# Altium schematic symbol library Schlib2.SchLib: 35 symbols
Pins are listed as number, name and electrical type; pins without a type are passive.

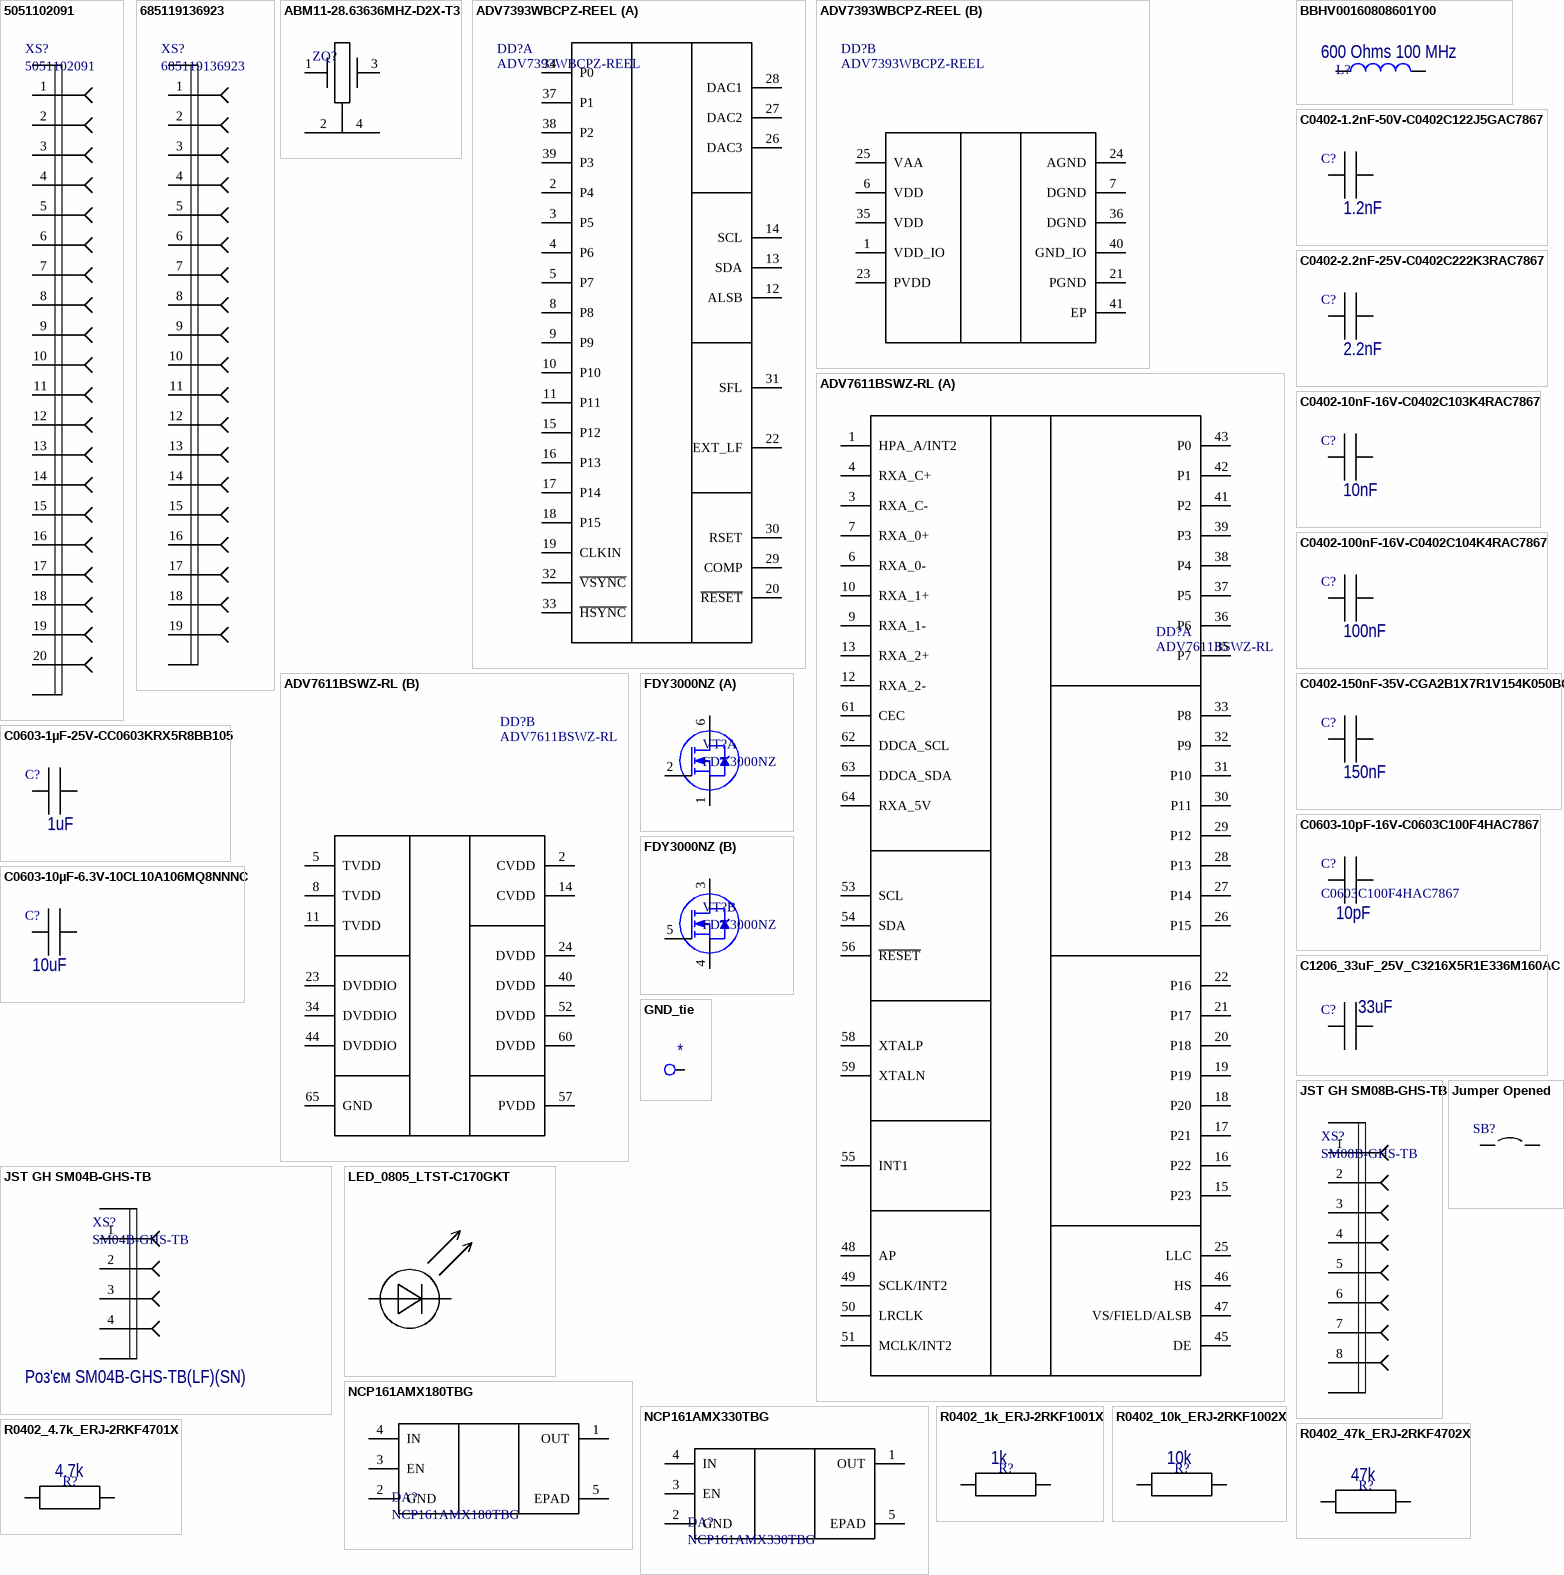
[diagram p0: symbols 5051102091 to R0402_47k_ERJ-2RKF4702X]

## 5051102091
designator XS?
20 Position FFC, FPC Connector Contacts, Bottom 0.020" (0.50mm) Surface Mount, Right Angle; Назва за КД: Роз'єм 5051102091; Supplier link 1: https://www.digikey.com/en/products/detail/molex/5051102091/5254655; Supplier link 2: *; Supplier link 3: *
footprint CON_5051102091_MOL
pins: 1, 2, 3, 4, 5, 6, 7, 8, 9, 10, 11, 12, 13, 14, 15, 16, 17, 18, 19, 20, P1 Shield, P2 Shield

## 685119136923
designator XS?
HDMI - Mini Receptacle Connector 19 Position Surface Mount, Right Angle; Through Hole; Назва за КД: Роз'єм 685119136923; Supplier link 1: https://www.digikey.com/en/products/detail/w%C3%BCrth-elektronik/685119136923/2508508; Supplier link 2: *; Supplier link 3: *
footprint 685119136923 (Mini HDMI SMT Horizontal)
pins: 1 TMDS Data2 Shield, 2 TMDS Data2+, 3 TMDS Data2-, 4 TMDS Data1 Shield, 5 TMDS Data1+, 6 TMDS Data1-, 7 TMDS Data0 Shield, 8 TMDS Data0+, 9 TMDS Data0-, 10 TMDS Clock Shield, 11 TMDS Clock+, 12 TMDS Clock-, 13 DDC / CEC Ground / HEAC Shield, 14 CEC, 15 SCL, 16 SDA, 17 Utility / HEAC+, 18 +5V Power, 19 Hot Plug Detect / HEAC-, Shell Shield, Shell Shield

## ABM11-28.63636MHZ-D2X-T3
designator ZQ?
28.63636 MHz ±20ppm Crystal 10pF 100 Ohms 4-SMD, No Lead; Назва за КД: Кварц ABM11-28.63636MHZ-D2X-T3; Supplier link 1: https://www.digikey.com/en/products/detail/abracon-llc/ABM11-28-63636MHZ-D2X-T3/2623744?_gl=1*z1352j*_up*MQ..&gclid=Cj0KCQiAnKeCBhDPARIsAFDTLTIWUi_VlukfZKLeJup5zjw6K0pO7YUGtIszURMuY4osn_knpUlntF8aAvaFEALw_wcB
footprint FP-ABM11-MFG
pins: 1 OSC1, 2 GND, 3 OSC2, 4 GND

## ADV7393WBCPZ-REEL
designator DD?
Low Power, Chip Scale, 10-Bit SD/HD Video Encoder, 1.8/3.3 V, 16-bit Video Input Port, -40 to 105 degC, 40-Pin LFCSP (CP-40-1), RoHS, Reel; Назва за КД: Мікросхема ADV7393WBCPZ-REEL; Supplier link 1: https://www.digikey.com/en/products/detail/analog-devices-inc/ADV7393WBCPZ-REEL/6163897; Supplier link 2: *; Supplier link 3: *
footprint ADI-CP-40-1_L (QFN, 40-Leads, Body 6x6mm, Pitch 0.5mm, Thermal Pad 4.1x4.1mm, IPC High Density)
footprint ADI-CP-40-1_M (QFN, 40-Leads, Body 6x6mm, Pitch 0.5mm, Thermal Pad 4.1x4.1mm, IPC Low Density)
footprint ADI-CP-40-1_N (QFN, 40-Leads, Body 6x6mm, Pitch 0.5mm, Thermal Pad 4.1x4.1mm, IPC Medium Density)
part A pins: 2 P4 "16-Bit Pixel Port (P15 to P0). P0 is the LSB. See Table 36 for input modes (ADV7392/ADV7393).", 3 P5 "16-Bit Pixel Port (P15 to P0). P0 is the LSB. See Table 36 for input modes (ADV7392/ADV7393).", 4 P6 "16-Bit Pixel Port (P15 to P0). P0 is the LSB. See Table 36 for input modes (ADV7392/ADV7393).", 5 P7 "16-Bit Pixel Port (P15 to P0). P0 is the LSB. See Table 36 for input modes (ADV7392/ADV7393).", 8 P8 "16-Bit Pixel Port (P15 to P0). P0 is the LSB. See Table 36 for input modes (ADV7392/ADV7393).", 9 P9 "16-Bit Pixel Port (P15 to P0). P0 is the LSB. See Table 36 for input modes (ADV7392/ADV7393).", 10 P10 "16-Bit Pixel Port (P15 to P0). P0 is the LSB. See Table 36 for input modes (ADV7392/ADV7393).", 11 P11 "16-Bit Pixel Port (P15 to P0). P0 is the LSB. See Table 36 for input modes (ADV7392/ADV7393).", 12 ALSB "ALSB sets up the LSB2 of the MPU I2C address.", 13 SDA "I2C Data Input/Output.", 14 SCL "I2C Clock Input.", 15 P12 "16-Bit Pixel Port (P15 to P0). P0 is the LSB. See Table 36 for input modes (ADV7392/ADV7393).", 16 P13 "16-Bit Pixel Port (P15 to P0). P0 is the LSB. See Table 36 for input modes (ADV7392/ADV7393).", 17 P14 "16-Bit Pixel Port (P15 to P0). P0 is the LSB. See Table 36 for input modes (ADV7392/ADV7393).", 18 P15 "16-Bit Pixel Port (P15 to P0). P0 is the LSB. See Table 36 for input modes (ADV7392/ADV7393).", 19 CLKIN "Pixel Clock Input for HD (74.25 MHz), ED1 (27 MHz or 54 MHz), or SD (27 MHz).", 20 ~{RESET} "Resets the on-chip timing generator and sets the ADV739x into its default mode.", 22 EXT_LF "External Loop Filter for the Internal PLL.", 26 DAC3 "DAC Outputs. Full-drive and low-drive capable DACs.", 27 DAC2 "DAC Outputs. Full-drive and low-drive capable DACs.", 28 DAC1 "DAC Outputs. Full-drive and low-drive capable DACs.", 29 COMP "Compensation Pin. Connect a 2.2 nF capacitor from COMP to VAA.", 30 RSET "Controls the amplitudes of the DAC 1, DAC 2, and DAC 3 outputs. For full-drive operation (for example, into a 37.5 ohm load), a 510 ohm resistor must be connected from RSET to AGND. For low-drive operation (for example, into a 300 ohm load), a 4.12 kohm", 31 SFL "Subcarrier Frequency Lock (SFL) Input.", 32 ~{VSYNC} "Vertical Synchronization Signal. This pin can also be configured to output an SD, ED, or HD vertical synchronization signal. See the External Horizontal and Vertical Synchronization Control section.", 33 ~{HSYNC} "Horizontal Synchronization Signal. This pin can also be configured to output an SD, ED, or HD horizontal synchronization signal. See the External Horizontal and Vertical Synchronization Control section.", 34 P0 "16-Bit Pixel Port (P15 to P0). P0 is the LSB. See Table 36 for input modes (ADV7392/ADV7393).", 37 P1 "16-Bit Pixel Port (P15 to P0). P0 is the LSB. See Table 36 for input modes (ADV7392/ADV7393).", 38 P2 "16-Bit Pixel Port (P15 to P0). P0 is the LSB. See Table 36 for input modes (ADV7392/ADV7393).", 39 P3 "16-Bit Pixel Port (P15 to P0). P0 is the LSB. See Table 36 for input modes (ADV7392/ADV7393)."
part B pins: 1 VDD_IO (power) "Input/Output Digital Power Supply (1.8 V or 3.3 V).", 6 VDD (power) "Digital Power Supply (1.8 V). For dual-supply configurations, VDD can be connected to other 1.8 V supplies through a ferrite bead or suitable filtering.", 7 DGND (power) "Digital Ground Pin.", 21 PGND (power) "PLL Ground Pin.", 23 PVDD (power) "PLL Power Supply (1.8 V). For dual-supply configurations, PVDD can be connected to other 1.8 V supplies through a ferrite bead or suitable filtering.", 24 AGND (power) "Analog Ground Pin.", 25 VAA (power) "Analog Power Supply (2.7 V or 3.3 V).", 35 VDD (power) "Digital Power Supply (1.8 V). For dual-supply configurations, VDD can be connected to other 1.8 V supplies through a ferrite bead or suitable filtering.", 36 DGND (power) "Digital Ground Pin.", 40 GND_IO (power) "Input/Output Supply Ground Pin.", 41 EP (power) "Connect to analog ground (AGND)."

## ADV7611BSWZ-RL
designator DD?
Video Receiver IC I2C, I2S HDMI 1.4a, IEC 60958 64-LQFP-EP (10x10) Package; Назва за КД: Мікросхема ADV7611BSWZ-RL; Supplier link 1: https://www.win-source.net/products/detail/analog-devices-inc/adv7611bswz-rl.html; Supplier link 2: https://www.heisener.com/ProductDetail/ADV7611BSWZ-RL; Supplier link 3: https://octopart.com/adv7611bswz-rl-analog+devices-22024330?r=sp
footprint ADI-SW-64-2_L (LQFP, 64-Leads, Body 10.00x10.00mm, Pitch 0.50mm, Thermal Pad 5x5mm, IPC High Density)
footprint ADI-SW-64-2_M (LQFP, 64-Leads, Body 10.00x10.00mm, Pitch 0.50mm, Thermal Pad 5x5mm, IPC Low Density)
footprint ADI-SW-64-2_N (LQFP, 64-Leads, Body 10.00x10.00mm, Pitch 0.50mm, Thermal Pad 5x5mm, IPC Medium Density)
part A pins: 1 HPA_A/INT2 "A dual function pin that can be configured to output a Hot Plug assert signal (for HDMI Port A) or an Interrupt 2 signal. This pin is 5 V tolerant.", 3 RXA_C- "Digital Input Clock Complement of Port A in the HDMI Interface.", 4 RXA_C+ "Digital Input Clock True of Port A in the HDMI Interface.", 6 RXA_0- "Digital Input Channel 0 Complement of Port A in the HDMI Interface.", 7 RXA_0+ "Digital Input Channel 0 True of Port A in the HDMI Interface.", 9 RXA_1- "Digital Input Channel 1 Complement of Port A in the HDMI Interface.", 10 RXA_1+ "Digital Input Channel 1 True of Port A in the HDMI Interface.", 12 RXA_2- "Digital Input Channel 2 Complement of Port A in the HDMI Interface.", 13 RXA_2+ "Digital Input Channel 2 True of Port A in the HDMI Interface.", 15 P23 "Video Pixel Output Port.", 16 P22 "Video Pixel Output Port.", 17 P21 "Video Pixel Output Port.", 18 P20 "Video Pixel Output Port.", 19 P19 "Video Pixel Output Port.", 20 P18 "Video Pixel Output Port.", 21 P17 "Video Pixel Output Port.", 22 P16 "Video Pixel Output Port.", 25 LLC "Line-Locked Output Clock for the Pixel Data (Range is 13.5 MHz to 162.5 MHz).", 26 P15 "Video Pixel Output Port.", 27 P14 "Video Pixel Output Port.", 28 P13 "Video Pixel Output Port.", 29 P12 "Video Pixel Output Port.", 30 P11 "Video Pixel Output Port.", 31 P10 "Video Pixel Output Port.", 32 P9 "Video Pixel Output Port.", 33 P8 "Video Pixel Output Port.", 35 P7 "Video Pixel Output Port.", 36 P6 "Video Pixel Output Port.", 37 P5 "Video Pixel Output Port.", 38 P4 "Video Pixel Output Port.", 39 P3 "Video Pixel Output Port.", 41 P2 "Video Pixel Output Port.", 42 P1 "Video Pixel Output Port.", 43 P0 "Video Pixel Output Port.", 45 DE "DE (data enable) is a signal that indicates active pixel data.", 46 HS "HS is a horizontal synchronization output signal.", 47 VS/FIELD/ALSB "VS is a vertical synchronization output signal. FIELD is a field synchronization output signal in all interlaced video modes. VS or FIELD can be configured for this pin. The ALSB allows selection of the I2C address.", 48 AP "Audio Output Pin. Pin can be configured to output S/PDIF digital audio output (S/PDIF) or I2S.", 49 SCLK/INT2 "A dual function pin that can be configured to output an audio serial clock or an Interrupt 2 signal.", 50 LRCLK "Audio Left/Right Clock.", 51 MCLK/INT2 "A dual function pin that can be configured to output an audio master clock or an Interrupt 2 signal.", 53 SCL "I2C Port Serial Clock Input. SCL is the clock line for the control port.", 54 SDA "I2C Port Serial Data Input/Output Pin. SDA is the data line for the control port.", 55 INT1 "Interrupt. This pin can be active low or active high. When status bits change, this pin is triggered. The events that trigger an interrupt are under user configuration.", 56 ~{RESET} "System Reset Input. Active low. A minimum low reset pulse width of 5 ms is required to reset the ADV7611 circuitry.", 58 XTALP "Input Pin for 28.63636 MHz Crystal or an External 1.8 V, 28.63636 MHz Clock Oscillator Source to Clock the ADV7611.", 59 XTALN "Crystal Input. Input pin for 28.63636 MHz crystal.", 61 CEC "Consumer Electronic Control Channel.", 62 DDCA_SCL "HDCP Slave Serial Clock Port A. DDCA_SCL is a 3.3 V input that is 5 V tolerant.", 63 DDCA_SDA "HDCP Slave Serial Data Port A. DDCA_SDA is a 3.3 V input that is 5 V tolerant.", 64 RXA_5V "5 V Detect Pin for Port A in the HDMI Interface."
part B pins: 2 CVDD "HDMI Analog Block Supply Voltage (1.8 V).", 5 TVDD "Terminator Supply Voltage (3.3 V).", 8 TVDD "Terminator Supply Voltage (3.3 V).", 11 TVDD "Terminator Supply Voltage (3.3 V).", 14 CVDD "HDMI Analog Block Supply Voltage (1.8 V).", 23 DVDDIO "Digital I/O Supply Voltage (3.3 V).", 24 DVDD "Digital Core Supply Voltage (1.8 V).", 34 DVDDIO "Digital I/O Supply Voltage (3.3 V).", 40 DVDD "Digital Core Supply Voltage (1.8 V).", 44 DVDDIO "Digital I/O Supply Voltage (3.3 V).", 52 DVDD "Digital Core Supply Voltage (1.8 V).", 57 PVDD "PLL Supply Voltage (1.8 V).", 60 DVDD "Digital Core Supply Voltage (1.8 V).", 65 GND "Ground."

## BBHV00160808601Y00
designator L?, comment value 600 Ohms 100 MHz  (hidden comment: ferrite bead)
600 Ohms @ 100 MHz 1 Ferrite Bead 0603 (1608 Metric) 2A 100mOhm; Supplier link 1: https://www.digikey.com/en/products/detail/pulse-electronics/BBHV00160808601Y00/10508599?_gl=1*r82f7z*_up*MQ..&gclid=Cj0KCQiAnKeCBhDPARIsAFDTLTIWUi_VlukfZKLeJup5zjw6K0pO7YUGtIszURMuY4osn_knpUlntF8aAvaFEALw_wcB
footprint SC0603_L (Chip Capacitor, 2-Leads, Body 1,6x0,8mm, IPC High Density)
footprint SC0603_M (Chip Capacitor, 2-Leads, Body 1,6x0,8mm, IPC Low Density)
footprint SC0603_N (Chip Capacitor, 2-Leads, Body 1,6x0,8mm, IPC Medium Density)
pins: 1, 2

## C0402-1.2nF-50V-C0402C122J5GAC7867
designator C?, comment value 1.2nF  (hidden comment: C0402C222K3RAC7867)
1200 pF ±5% 50V Ceramic Capacitor C0G, NP0 0402 (1005 Metric); Назва за КД: Конденсатор C0402C222K3RAC7867; Supplier link 1: https://www.digikey.com/en/products/detail/kemet/C0402C122J5GAC7867/3316991
footprint FP-C0402-BB-IPC_A
footprint FP-C0402-BB-IPC_B
footprint FP-C0402-BB-IPC_C
footprint FP-C0402-BB-MFG
pins: 1, 2

## C0402-2.2nF-25V-C0402C222K3RAC7867
designator C?, comment value 2.2nF  (hidden comment: C0402C222K3RAC7867)
2200 pF ±10% 25V Ceramic Capacitor X7R 0402 (1005 Metric); Назва за КД: Конденсатор C0402C222K3RAC7867; Supplier link 1: https://www.digikey.com/en/products/detail/kemet/C0402C222K3RAC7867/411035
footprint FP-C0402-BB-IPC_A
footprint FP-C0402-BB-IPC_B
footprint FP-C0402-BB-IPC_C
footprint FP-C0402-BB-MFG
pins: 1, 2

## C0402-10nF-16V-C0402C103K4RAC7867
designator C?, comment value 10nF  (hidden comment: C0402C103K4RAC7867)
10000 pF ±10% 16V Ceramic Capacitor X7R 0402 (1005 Metric); Назва за КД: Конденсатор C0402C103K4RAC7867; Supplier link 1: https://www.digikey.com/en/products/detail/kemet/C0402C103K4RAC7867/411040
footprint FP-C0402-BB-IPC_A
footprint FP-C0402-BB-IPC_B
footprint FP-C0402-BB-IPC_C
footprint FP-C0402-BB-MFG
pins: 1, 2

## C0402-100nF-16V-C0402C104K4RAC7867
designator C?, comment value 100nF  (hidden comment: C0402C104K4RAC7867)
0.1 µF ±10% 16V Ceramic Capacitor X7R 0402 (1005 Metric); Назва за КД: Конденсатор C0402C104K4RAC7867; Supplier link 1: https://www.digikey.com/en/products/detail/kemet/C0402C104K4RAC7867/789653
footprint FP-C0402-BB-IPC_A
footprint FP-C0402-BB-IPC_B
footprint FP-C0402-BB-IPC_C
footprint FP-C0402-BB-MFG
pins: 1, 2

## C0402-150nF-35V-CGA2B1X7R1V154K050BC
designator C?, comment value 150nF  (hidden comment: CGA2B1X7R1V154K050BC)
0.15 µF ±10% 35V Ceramic Capacitor X7R 0402 (1005 Metric); Назва за КД: Конденсатор CGA2B1X7R1V154K050BC; Supplier link 1: https://www.digikey.com/en/products/detail/tdk-corporation/CGA2B1X7R1V154K050BC/4931436
footprint FP-C0402-BB-IPC_A
footprint FP-C0402-BB-IPC_B
footprint FP-C0402-BB-IPC_C
footprint FP-C0402-BB-MFG
pins: 1, 2

## C0603-1µF-25V-CC0603KRX5R8BB105
designator C?, comment value 1uF  (hidden comment: CC0603KRX5R8BB105)
1 µF ±10% 25V Ceramic Capacitor X5R 0603 (1608 Metric); Назва за КД: Конденсатор CC0603KRX5R8BB105; Supplier link 1: https://www.digikey.com/en/products/detail/yageo/CC0603KRX5R8BB105/2833610?s=N4IgTCBcDaIMJwAwDZEGYDSAlAGgViwA4AhYgRkTxAF0BfIA; Supplier link 2: https://www.mouser.com/ProductDetail/YAGEO/CC0603KRX5R8BB105?qs=BKNoF%2F0xMNuZVooGAHMQbg%3D%3D
footprint SC0603_L (Chip Capacitor, 2-Leads, Body 1,6x0,8mm, IPC High Density)
footprint SC0603_M (Chip Capacitor, 2-Leads, Body 1,6x0,8mm, IPC Low Density)
footprint SC0603_N (Chip Capacitor, 2-Leads, Body 1,6x0,8mm, IPC Medium Density)
pins: 1, 2

## C0603-10pF-16V-C0603C100F4HAC7867
designator C?, comment C0603C100F4HAC7867  value 10pF
10 pF ±1% 16V Ceramic Capacitor X8R 0603 (1608 Metric); Назва за КД: Конденсатор C0603C100F4HAC7867; Supplier link 1: https://www.digikey.com/en/products/detail/kemet/C0603C100F4HAC7867/7945991
footprint SC0603_L (Chip Capacitor, 2-Leads, Body 1,6x0,8mm, IPC High Density)
footprint SC0603_M (Chip Capacitor, 2-Leads, Body 1,6x0,8mm, IPC Low Density)
footprint SC0603_N (Chip Capacitor, 2-Leads, Body 1,6x0,8mm, IPC Medium Density)
pins: 1, 2

## C0603-10µF-6.3V-10CL10A106MQ8NNNC
designator C?, comment value 10uF  (hidden comment: CL10A106MQ8NNNC)
10 µF ±20% 6.3V Ceramic Capacitor X5R 0603 (1608 Metric); Назва за КД: Конденсатор CL10A106MQ8NNNC; Supplier link 1: https://www.digikey.com/en/products/detail/samsung-electro-mechanics/CL10A106MQ8NNNC/3886777?s=N4IgTCBcDaIMIBkCMAGAgqgbAWQIoA4A5YuEAXQF8g; Supplier link 2: https://www.mouser.com/ProductDetail/Samsung-Electro-Mechanics/CL10A106MQ8NNNC?qs=349EhDEZ59qlB6a%2FjjeGAg%3D%3D
footprint SC0603_L (Chip Capacitor, 2-Leads, Body 1,6x0,8mm, IPC High Density)
footprint SC0603_M (Chip Capacitor, 2-Leads, Body 1,6x0,8mm, IPC Low Density)
footprint SC0603_N (Chip Capacitor, 2-Leads, Body 1,6x0,8mm, IPC Medium Density)
pins: 1, 2

## C1206_33uF_25V_C3216X5R1E336M160AC
designator C?, comment value 33uF  (hidden comment: C3216X5R1E336M160AC)
33 µF ±20% 25V Ceramic Capacitor X5R 1206 (3216 Metric); Назва за КД: Конденсатор C3216X5R1E336M160AC; Supplier link 1: https://www.digikey.com/en/products/detail/tdk-corporation/C3216X5R1E336M160AC/2792259; Supplier link 2: *; Supplier link 3: *
footprint 1206
footprint 1206-L
footprint 1206-M
pins: 1, 2

## FDY3000NZ
designator VT?
Mosfet Array 20V 600mA 446mW Surface Mount SOT-563F; Назва за КД: Транзистор FDY3000NZ; Supplier link 1: https://www.digikey.com/en/products/detail/onsemi/fdy3000nz/1923009; Supplier link 2: *
footprint FAIR-SOT-563F-6-A_V (SOTFL, 6-Leads, Body 1.7x1.2mm, Pitch 0.5mm)
part A pins: 1 S1, 2 G1, 6 D1
part B pins: 3 D2, 4 S2, 5 G2

## GND_tie
designator *  (value not drawn)
footprint 1206-GND_Tie
pins: 1

## JST GH SM04B-GHS-TB
designator XS?, comment SM04B-GHS-TB  Назва за КД: Роз'єм SM04B-GHS-TB(LF)(SN)
1.25mm pitch/Disconnectable Crimp style connectors
footprint SM04B-GHS-TB (1.25mm pitch/Disconnectable Crimp style connectors)
pins: 1, 2, 3, 4, M, M

## JST GH SM08B-GHS-TB
designator XS?, comment SM08B-GHS-TB
1.25x08 JST GH RA; Назва за КД: Роз'єм SM08B-GHS-TB; Supplier link 1: https://www.digikey.com/en/products/detail/jst-sales-america-inc/SM08B-GHS-TB/807792; Supplier link 2: *; Supplier link 3: *
footprint SM08B-GHS-TB (1.25mm pitch/Disconnectable Crimp style connectors)
pins: 1, 2, 3, 4, 5, 6, 7, 8, M, M

## Jumper Opened
designator SB?, comment Jumper SB  (value not drawn)  (no BOM)
Circuit Breaker Opened , for solder closing
footprint SB1206
footprint SB0805
footprint SB0603
pins: 1, 2

## LED_0805_LTST-C170GKT
designator HL?, comment LTST-C170GKT  (value not drawn)
Green 569nm LED Indication - Discrete 2.1V 0805 (2012 Metric); Назва за КД: Світлодіод TJ-S3216SW9TGLC7K-A5; Supplier link 1: https://www.digikey.com/en/products/detail/liteon/LTST-C170GKT/269226
footprint LED_0805_G
pins: 1 K, 2 A

## NCP161AMX180TBG
designator DA?
IC REG LINEAR 1.8V 450MA 4XDFN; Назва за КД: Мікросхема NCP161AMX180TBG; Supplier link 1: https://www.digikey.com/en/products/detail/onsemi/NCP161AMX180TBG/5257724?s=N4IgTCBcDaIHIGEAKBGAbCgggWQBooA4AGAFQCEBxEAXQF8g
footprint XDFN4_711AJ_ONS_OSI
pins: 1 OUT, 2 GND, 3 EN, 4 IN, 5 EPAD

## NCP161AMX330TBG
designator DA?
IC REG LINEAR 3.3V 450MA 4XDFN; Назва за КД: Мікросхема NCP161AMX330TBG; Supplier link 1: https://www.digikey.com/en/products/detail/onsemi/NCP161AMX330TBG/5257729?s=N4IgTCBcDaIHIGEAKBGAbCgggWQBoGZ8AGAFQCEBxEAXQF8g
footprint XDFN4_711AJ_ONS_OSI
pins: 1 OUT, 2 GND, 3 EN, 4 IN, 5 EPAD

## R0402_1k_ERJ-2RKF1001X
designator R?, comment value 1k  (hidden comment: ERJ-2RKF1001X)
1 kOhms ±1% 0.1W, 1/10W Chip Resistor 0402 (1005 Metric) Automotive AEC-Q200 Thick Film; Назва за КД: Резистор ERJ-2RKF1001X; Supplier link 1: https://www.digikey.com/en/products/detail/panasonic-electronic-components/ERJ-2RKF1001X/79729; Supplier link 2: *; Supplier link 3: *
footprint RC04025-L (Chip Resistor, 2-Leads, Body 1.05x0.55mm, IPC High Density)
footprint RC04025-M (Chip Resistor, 2-Leads, Body 1.05x0.55mm, IPC Low Density)
footprint RC04025-N (Chip Resistor, 2-Leads, Body 1.05x0.55mm, IPC Medium Density)
pins: 1, 2

## R0402_4.7k_ERJ-2RKF4701X
designator R?, comment value 4.7k  (hidden comment: ERJ-2RKF4701X)
4.7 kOhms ±1% 0.1W, 1/10W Chip Resistor 0402 (1005 Metric) Automotive AEC-Q200 Thick Film; Назва за КД: Резистор ERJ-2RKF4701X; Supplier link 1: https://www.digikey.com/en/products/detail/panasonic-electronic-components/ERJ-2RKF4701X/1746231?s=N4IgTCBcDaIKICUBSBaMCDSAxALAdgAYBGADRAF0BfIA; Supplier link 2: *; Supplier link 3: *
footprint RC04025-L (Chip Resistor, 2-Leads, Body 1.05x0.55mm, IPC High Density)
footprint RC04025-M (Chip Resistor, 2-Leads, Body 1.05x0.55mm, IPC Low Density)
footprint RC04025-N (Chip Resistor, 2-Leads, Body 1.05x0.55mm, IPC Medium Density)
pins: 1, 2

## R0402_10k_ERJ-2RKF1002X
designator R?, comment value 10k  (hidden comment: ERJ-2RKF1002X)
10 kOhms ±1% 0.1W, 1/10W Chip Resistor 0402 (1005 Metric) Automotive AEC-Q200 Thick Film; Назва за КД: Резистор ERJ-2RKF1002X; Supplier link 1: https://www.digikey.com/en/products/detail/panasonic-electronic-components/ERJ-2RKF1002X/192073; Supplier link 2: *; Supplier link 3: *
footprint RC04025-L (Chip Resistor, 2-Leads, Body 1.05x0.55mm, IPC High Density)
footprint RC04025-M (Chip Resistor, 2-Leads, Body 1.05x0.55mm, IPC Low Density)
footprint RC04025-N (Chip Resistor, 2-Leads, Body 1.05x0.55mm, IPC Medium Density)
pins: 1, 2

## R0402_47k_ERJ-2RKF4702X
designator R?, comment value 47k  (hidden comment: ERJ-2RKF4702X)
47 kOhms ±1% 0.1W, 1/10W Chip Resistor 0402 (1005 Metric) Automotive AEC-Q200 Thick Film; Назва за КД: Резистор ERJ-2RKF4702X; Supplier link 1: https://www.digikey.com/en/products/detail/panasonic-electronic-components/ERJ-2RKF4702X/1746233; Supplier link 2: *; Supplier link 3: *
footprint RC04025-L (Chip Resistor, 2-Leads, Body 1.05x0.55mm, IPC High Density)
footprint RC04025-M (Chip Resistor, 2-Leads, Body 1.05x0.55mm, IPC Low Density)
footprint RC04025-N (Chip Resistor, 2-Leads, Body 1.05x0.55mm, IPC Medium Density)
pins: 1, 2

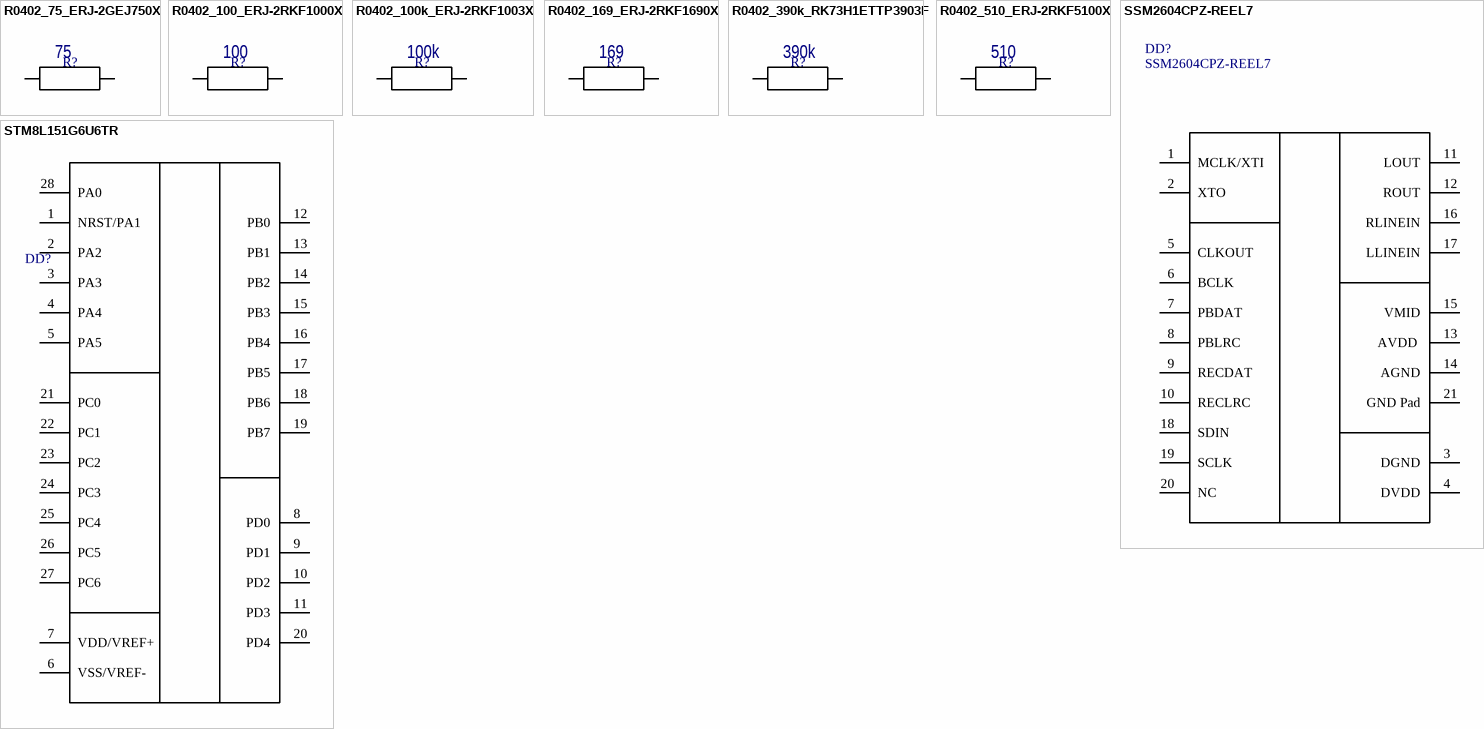
[diagram p1: symbols R0402_75_ERJ-2GEJ750X to STM8L151G6U6TR]

## R0402_75_ERJ-2GEJ750X
designator R?, comment value 75  (hidden comment: ERJ-2GEJ750X)
75 Ohms ±5% 0.1W, 1/10W Chip Resistor 0402 (1005 Metric) Automotive AEC-Q200 Thick Film; Назва за КД: Резистор ERJ-2GEJ750X; Supplier link 1: https://www.digikey.com/en/products/detail/panasonic-electronic-components/ERJ-2GEJ750X/147072; Supplier link 2: *; Supplier link 3: *
footprint RC04025-L (Chip Resistor, 2-Leads, Body 1.05x0.55mm, IPC High Density)
footprint RC04025-M (Chip Resistor, 2-Leads, Body 1.05x0.55mm, IPC Low Density)
footprint RC04025-N (Chip Resistor, 2-Leads, Body 1.05x0.55mm, IPC Medium Density)
pins: 1, 2

## R0402_100_ERJ-2RKF1000X
designator R?, comment value 100  (hidden comment: ERJ-2RKF1000X)
100 Ohms ±1% 0.1W, 1/10W Chip Resistor 0402 (1005 Metric) Automotive AEC-Q200 Thick Film; Назва за КД: Резистор ERJ-2RKF1000X; Supplier link 1: https://www.digikey.com/en/products/detail/panasonic-electronic-components/ERJ-2RKF1000X/192080; Supplier link 2: *; Supplier link 3: *
footprint RC04025-L (Chip Resistor, 2-Leads, Body 1.05x0.55mm, IPC High Density)
footprint RC04025-M (Chip Resistor, 2-Leads, Body 1.05x0.55mm, IPC Low Density)
footprint RC04025-N (Chip Resistor, 2-Leads, Body 1.05x0.55mm, IPC Medium Density)
pins: 1, 2

## R0402_100k_ERJ-2RKF1003X
designator R?, comment value 100k  (hidden comment: ERJ-2RKF1003X)
100 kOhms ±1% 0.1W, 1/10W Chip Resistor 0402 (1005 Metric) Automotive AEC-Q200 Thick Film; Назва за КД: Резистор ERJ-2RKF1003X; Supplier link 1: https://www.digikey.com/en/products/detail/panasonic-electronic-components/ERJ-2RKF1003X/192081; Supplier link 2: *; Supplier link 3: *
footprint RC04025-L (Chip Resistor, 2-Leads, Body 1.05x0.55mm, IPC High Density)
footprint RC04025-M (Chip Resistor, 2-Leads, Body 1.05x0.55mm, IPC Low Density)
footprint RC04025-N (Chip Resistor, 2-Leads, Body 1.05x0.55mm, IPC Medium Density)
pins: 1, 2

## R0402_169_ERJ-2RKF1690X
designator R?, comment value 169  (hidden comment: ERJ-2RKF1690X)
169 Ohms ±1% 0.1W, 1/10W Chip Resistor 0402 (1005 Metric) Automotive AEC-Q200 Thick Film; Назва за КД: Резистор ERJ-2RKF1690X; Supplier link 1: https://www.digikey.com/en/products/detail/panasonic-electronic-components/ERJ-2RKF1690X/192166; Supplier link 2: *; Supplier link 3: *
footprint RC04025-L (Chip Resistor, 2-Leads, Body 1.05x0.55mm, IPC High Density)
footprint RC04025-M (Chip Resistor, 2-Leads, Body 1.05x0.55mm, IPC Low Density)
footprint RC04025-N (Chip Resistor, 2-Leads, Body 1.05x0.55mm, IPC Medium Density)
pins: 1, 2

## R0402_390k_RK73H1ETTP3903F
designator R?, comment value 390k  (hidden comment: RK73H1ETTP3903F)
390 kOhms ±1% 0.1W, 1/10W Chip Resistor 0402 (1005 Metric) Automotive AEC-Q200 Thick Film; Назва за КД: Резистор RK73H1ETTP3903F; Supplier link 1: https://www.digikey.com/en/products/detail/koa-speer-electronics-inc/RK73H1ETTP3903F/9844485; Supplier link 2: *; Supplier link 3: *
footprint RC04025-L (Chip Resistor, 2-Leads, Body 1.05x0.55mm, IPC High Density)
footprint RC04025-M (Chip Resistor, 2-Leads, Body 1.05x0.55mm, IPC Low Density)
footprint RC04025-N (Chip Resistor, 2-Leads, Body 1.05x0.55mm, IPC Medium Density)
pins: 1, 2

## R0402_510_ERJ-2RKF5100X
designator R?, comment value 510  (hidden comment: ERJ-2RKF5100X)
510 Ohms ±1% 0.1W, 1/10W Chip Resistor 0402 (1005 Metric) Automotive AEC-Q200 Thick Film; Назва за КД: Резистор ERJ-2RKF5100X; Supplier link 1: https://www.digikey.com/en/products/detail/panasonic-electronic-components/ERJ-2RKF5100X/1746240; Supplier link 2: *; Supplier link 3: *
footprint RC04025-L (Chip Resistor, 2-Leads, Body 1.05x0.55mm, IPC High Density)
footprint RC04025-M (Chip Resistor, 2-Leads, Body 1.05x0.55mm, IPC Low Density)
footprint RC04025-N (Chip Resistor, 2-Leads, Body 1.05x0.55mm, IPC Medium Density)
pins: 1, 2

## SSM2604CPZ-REEL7
designator DD?
Stereo Audio Interface 24 b Serial 20-LFCSP (4x4); Назва за КД: Мікросхема SSM2604CPZ-REEL7; Supplier link 1: https://www.digikey.com/en/products/detail/analog-devices-inc/SSM2604CPZ-REEL7/1944265?s=N4IgjCBcoLQExVAYygFwE4FcCmAaEA9lANogCsI%2BAnCALoC%2B%2BMN0IKkGO%2BRkpEDjEAl4gAyqICycAGwAGACx16QA; Supplier link 2: https://eu.mouser.com/ProductDetail/Analog-Devices/SSM2604CPZ-REEL7?qs=WIvQP4zGanjzkHQKJZeKuA%3D%3D&utm_source=octopart&utm_medium=aggregator&utm_campaign=584-SSM2604CPZ-R7&utm_content=Analog+Devices+Inc.
footprint CP_20_4_ADI
footprint CP_20_4_ADI-L
footprint CP_20_4_ADI-M
pins: 1 MCLK/XTI, 2 XTO, 3 DGND, 4 DVDD, 5 CLKOUT, 6 BCLK, 7 PBDAT, 8 PBLRC, 9 RECDAT, 10 RECLRC, 11 LOUT, 12 ROUT, 13 AVDD , 14 AGND, 15 VMID, 16 RLINEIN, 17 LLINEIN, 18 SDIN, 19 SCLK, 20 NC, 21 GND Pad

## STM8L151G6U6TR
designator DD?
STM8 STM8L EnergyLite Microcontroller IC 8-Bit 16MHz 32KB (32K x 8) FLASH 28-UFQFPN (4x4); Назва за КД: Мікросхема STM8L151G6U6TR; Supplier link 1: https://www.digikey.com/en/products/detail/stmicroelectronics/STM8L151G6U6TR/2529374; Supplier link 2: *
footprint UFQFPN28-4x4mm
footprint UFQFPN28-4x4mm-L
footprint UFQFPN28-4x4mm-M
pins: 1 NRST/PA1, 2 PA2, 3 PA3, 4 PA4, 5 PA5, 6 VSS/VREF-, 7 VDD/VREF+, 8 PD0, 9 PD1, 10 PD2, 11 PD3, 12 PB0, 13 PB1, 14 PB2, 15 PB3, 16 PB4, 17 PB5, 18 PB6, 19 PB7, 20 PD4, 21 PC0, 22 PC1, 23 PC2, 24 PC3, 25 PC4, 26 PC5, 27 PC6, 28 PA0